# Altium footprint library HEADER_6_SMT_RA.PcbLib: 1 footprints
Each footprint in its own frame and in the unit in brackets; x right, y up, seen from the top. Pads: shape width x height; smd on the part's side, far side on the other; paste and mask are expansions set on the pad; w line width, h text height; cw(c..) or ccw(c..) is an arc to the next point about the centre after c.
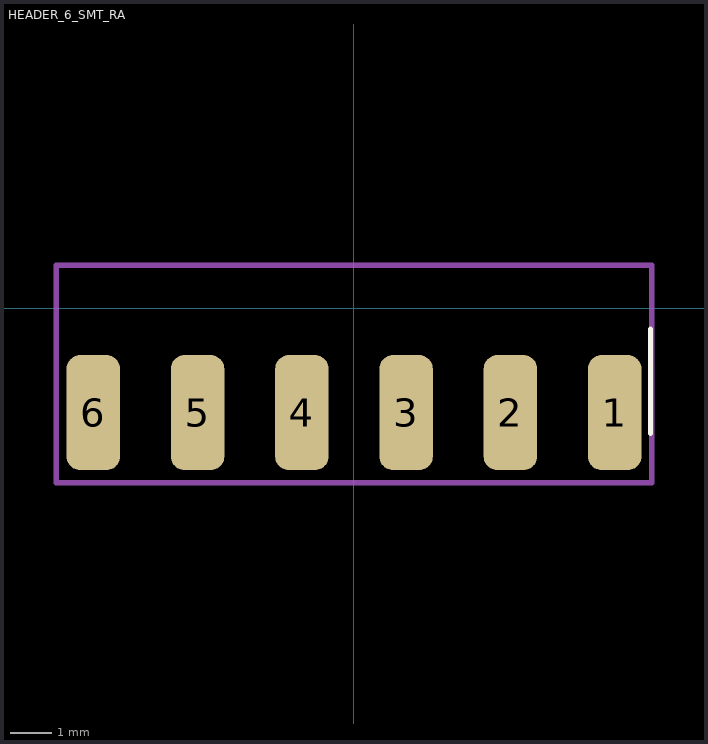
[diagram p0: the footprint, top view; thin cyan lines are the x and y axes]

## HEADER_6_SMT_RA [mm]
pads (6):
  rrect50% 1.3x2.8 smd: 1(6.35,-2.54) 2(3.81,-2.54) 3(1.27,-2.54) 4(-1.27,-2.54) 5(-3.81,-2.54) 6(-6.35,-2.54)
Top Overlay:
  lines w0.127: 7.225,-3.05 7.225,-0.51
Courtyards/Models - Top:
  lines w0.127: -7.25,-4.25 7.25,-4.25 7.25,1.05 -7.25,1.05 -7.25,-4.25
3D body: height 2.5, standoff 0, extent -7.62,-3.475 7.62,7.625